# Altium schematic symbol library rf-passive.SchLib: 2 symbols
Pins are listed as number, name and electrical type; pins without a type are passive.

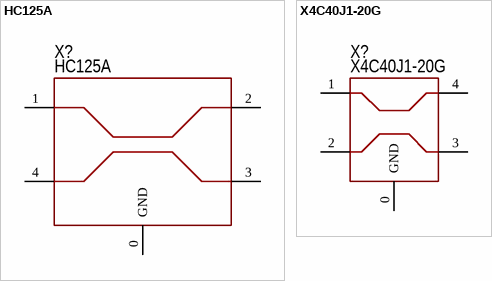
[diagram p0: symbols HC125A to X4C40J1-20G]

## HC125A
designator X?  PartNumber: HC125A
High Performance Multiband GNSS Hybrid Coupler; Manufacturer: Taoglas; ValueManufacturerPartNumber: Hybrid Coupler, 1150...1630MHz; AntennaImpedance: 50Ohm; Frequency: 1150...1630MHz; HelpURL: https://www.mouser.ee/datasheet/2/398/HC125A-2089649.pdf; ComponentType: Hybrid Coupler
footprint COUPLER: HC125A (Hybrid Coupler)
pins: 0 GND, 1 S1, 2 S2, 3 S3, 4 S4

## X4C40J1-20G
designator X?  PartNumber: X4C40J1-20G
20dB Directional Coupler; Manufacturer: TTM Technologies; ValueManufacturerPartNumber: Directional Coupler, 3100...5000MHz; AntennaImpedance: 50Ohm; Frequency: 3100...5000MHz; HelpURL: https://cdn.ttm.com/repository/products/wireless-xinger/10-20-30-dB-directional-couplers/X4C40J1-20G/X4C40J1-20G.pdf; ComponentType: Directional Coupler
footprint COUPLER: X4C40J1-20G (Directional Coupler)
pins: 0 GND, 1 S1, 2 S2, 3 S3, 4 S4